# Altium integrated library Tauv-Lib.IntLib: 74 symbols
Pins are listed as number, name and electrical type; pins without a type are passive.

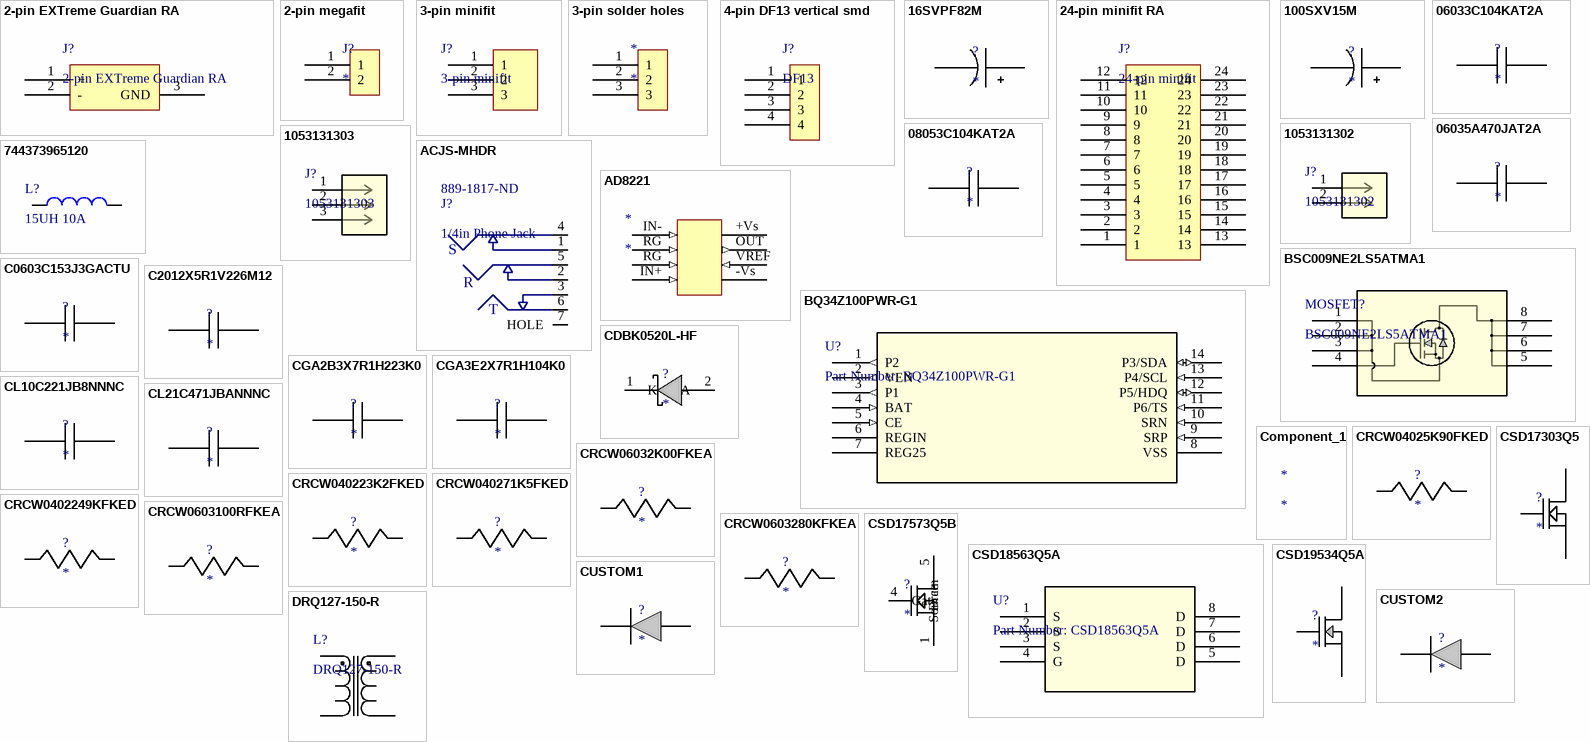
[diagram p0: symbols 2-pin EXTreme Guardian RA to DRQ127-150-R]

## 2-pin EXTreme Guardian RA
designator J?
WM8755-ND; ComponentLink1Description: digikey part; ComponentLink1URL: https://www.digikey.com/product-detail/en/molex/0468171002/WM8755-ND/3189761; ComponentLink2Description: mating connector; ComponentLink2URL: https://www.digikey.com/product-detail/en/molex/1510340012/WM14983-ND/6132389
footprint 2-pin EXTreme Guardian RA
pins: 1 +, 2 -, 3 GND

## 2-pin megafit
designator J?
footprint 2-pin Megafit RA
pins: 1, 2

## 3-pin minifit
designator J?
RA: WM4273-ND / VERT: WM18442-ND
footprint 3-PIN MINIFIT RA
footprint 3-PIN MINIFIT VERT
pins: 1, 2, 3

## 3-pin solder holes
designator *
footprint 3-PIN SOLDER HOLES
footprint 3-PIN SOLDER HOLES - small
pins: 1, 2, 3

## 4-pin DF13 vertical smd
designator J?, comment DF13
H126000CT-ND
footprint 4-pin DF13 vertical smd
pins: 1, 2, 3, 4

## 16SVPF82M
designator ?
No Description Available; Manufacturer_Part_Number: 16SVPF82M; Cap: 8.2E-5; ESR: 0.027; IRMS: 3.0; VDC: 16.0; Vendor: Panasonic; Datasheet_URL: http://industrial.panasonic.com/www%2Ddata/pdf/AAB8000/AAB8000CE1.pdf; Manufacturer_Name: Panasonic; Copyright: Copyright (C) 2018 Accelerated Designs. All rights reserved; RefDes: RefDes; Type: DEV; Value: Value
footprint CAPSMT_62_E61
pins: 1 +, 2 -

## 24-pin minifit RA
designator J?, comment 24-pin minifit
RA: WM21362-ND / VERT: WM3811-ND
footprint 24-PIN MINIFIT RA
footprint 24-PIN MINIFIT VERT
pins: 1, 2, 3, 4, 5, 6, 7, 8, 9, 10, 11, 12, 13, 14, 15, 16, 17, 18, 19, 20, 21, 22, 23, 24

## 100SXV15M
designator ?
No Description Available; Manufacturer_Part_Number: 100SXV15M; Cap: 1.5E-5; ESR: 0.04; IRMS: 2.35; VDC: 100.0; Vendor: Panasonic; Datasheet_URL: %20; Manufacturer_Name: Panasonic; Copyright: Copyright (C) 2018 Accelerated Designs. All rights reserved; RefDes: RefDes; Type: DEV; Value: Value
footprint CAPSMT_62_E12
pins: 1 +, 2 -

## 06033C104KAT2A
designator ?
No Description Available; Manufacturer_Part_Number: 06033C104KAT2A; Cap: 1.0E-7; ESR: 0.05; IRMS: 0.0; VDC: 25.0; Vendor: AVX; Manufacturer_Name: AVX; Copyright: Copyright (C) 2018 Accelerated Designs. All rights reserved; RefDes: RefDes; Type: DEV; Value: Value
footprint 0603
pins: 1, 2

## 06035A470JAT2A
designator ?
No Description Available; Manufacturer_Part_Number: 06035A470JAT2A; Cap: 4.7E-11; ESR: 0.174; IRMS: 0.0; VDC: 50.0; Vendor: AVX; Manufacturer_Name: AVX; Copyright: Copyright (C) 2018 Accelerated Designs. All rights reserved; RefDes: RefDes; Type: DEV; Value: Value
footprint 0603
pins: 1, 2

## 08053C104KAT2A
designator ?
No Description Available; Manufacturer_Part_Number: 08053C104KAT2A; Cap: 1.0E-7; ESR: 0.28; IRMS: 0.0; VDC: 25.0; Vendor: AVX; Manufacturer_Name: AVX; Copyright: Copyright (C) 2018 Accelerated Designs. All rights reserved; RefDes: RefDes; Type: DEV; Value: Value
footprint 0805
pins: 1, 2

## 1053131302
designator J?
No Description Available; Mfr_Name: Molex Connector Corporation; Copyright: Copyright (C) 2022 Ultra Librarian. All rights reserved.; Manufacturer_Part_Number: 1053131302; RefDes: RefDes; Type: DEV
footprint CON_1053131302
pins: 1, 2

## 1053131303
designator J?
No Description Available; Mfr_Name: Molex Connector Corporation; Copyright: Copyright (C) 2022 Ultra Librarian. All rights reserved.; Manufacturer_Part_Number: 1053131303; RefDes: RefDes; Type: DEV
footprint CON_1053131303
pins: 1, 2, 3

## 744373965120
designator L?, comment 15UH 10A
FIXED IND 15UH 10A 11.3 MOHM; ComponentLink1URL: http://www.bourns.com/docs/Product-Datasheets/SRP5030TA.pdf; ComponentLink1Description: http://www.bourns.com/docs/Product-Datasheets/SRP5030TA.pdf; Supplier 1: Digi-Key; Supplier Part Number 1: 732-10717-1-ND
footprint 744373965120
pins: 1, 2

## ACJS-MHDR
designator J?, comment 1/4in Phone Jack  Supplier Part Number 1: 889-1817-ND
Supplier 1: Digi-Key
footprint ACJS-MHDR
pins: 1, 2, 3, 4, 5, 6, 7 HOLE
text: S; R; T

## AD8221
designator *
pins: +Vs (power), -Vs (power), IN+ (in), IN- (in), OUT (out), RG (in), RG (in), VREF (in)

## BQ34Z100PWR-G1
designator U?, comment Part Number: BQ34Z100PWR-G1
No Description Available; Vendor: Texas Instruments; Built_By: EMA_UL_Team; Manufacturer_Part_Number: BQ34Z100PWR-G1; Copyright: Copyright (C) 2018 Accelerated Designs. All rights reserved; RefDes: RefDes; Type: DEV; Value: Value
footprint PW14
pins: 1 P2 (out), 2 VEN (out), 3 P1 (out), 4 BAT (in), 5 CE (in), 6 REGIN (power), 7 REG25 (power), 8 VSS (power), 9 SRP (in), 10 SRN (in), 11 P6/TS (in), 12 P5/HDQ (io), 13 P4/SCL (in), 14 P3/SDA (io)

## BSC009NE2LS5ATMA1
designator MOSFET?
No Description Available; Mfr_Name: Infineon; Copyright: Copyright (C) 2022 Ultra Librarian. All rights reserved.; Manufacturer_Part_Number: BSC009NE2LS5ATMA1; Digi-Key_Part_Number_1: BSC009NE2LS5ATMA1TR-ND; Digi-Key_Part_Number_2: BSC009NE2LS5ATMA1CT-ND; Digi-Key_Part_Number_3: BSC009NE2LS5ATMA1DKR-ND; RefDes: RefDes; Type: DEV
footprint PG-TDSON-8-1_INF
footprint UHEMA_36_ADI
pins: 1, 2, 3, 4, 5, 6, 7, 8

## C0603C153J3GACTU
designator ?
No Description Available; Manufacturer_Part_Number: C0603C153J3GACTU; Cap: 1.5E-8; ESR: 0.0; VDC: 25.0; Vendor: Kemet; Datasheet_URL: http://www.kemet.com/docfinder?Partnumber%3DC0603C153J3GACTU; IRMS: 0.0; Manufacturer_Name: Kemet; Copyright: Copyright (C) 2018 Accelerated Designs. All rights reserved; RefDes: RefDes; Type: DEV; Value: Value
footprint 0603
pins: 1, 2

## C2012X5R1V226M12
designator ?
No Description Available; Manufacturer_Part_Number: C2012X5R1V226M125AC; Cap: 2.2E-5; ESR: 0.00205; IRMS: 4.55587; VDC: 35.0; Vendor: TDK; Datasheet_URL: https://product.tdk.com/en/search/capacitor/ceramic/mlcc/info?part%5Fno%3DC2012X5R1V226M125AC; Manufacturer_Name: TDK; Copyright: Copyright (C) 2018 Accelerated Designs. All rights reserved; RefDes: RefDes; Type: DEV; Value: Value
footprint 0805
pins: 1, 2

## CDBK0520L-HF
designator ?
No Description Available; Manufacturer_Part_Number: CDBK0520L-HF; Io: 0.5; VRRM: 20.0; VFatIo: 0.385; Vendor: Comchip Technology; Datasheet_URL: http://www.comchiptech.com/cms/UserFiles/CDBK0520L%2DHF%2DRevB797958.pdf; Manufacturer_Name: Comchip Technology; Copyright: Copyright (C) 2018 Accelerated Designs. All rights reserved; RefDes: RefDes; Type: DEV; Value: Value
footprint SOD-123F
pins: 1 K, 2 A

## CGA2B3X7R1H223K0
designator ?
No Description Available; Manufacturer_Part_Number: CGA2B3X7R1H223K050BB; Cap: 2.2E-8; ESR: 0.141987; IRMS: 0.451393; VDC: 50.0; Vendor: TDK; Datasheet_URL: https://product.tdk.com/en/search/capacitor/ceramic/mlcc/info?part%5Fno%3DCGA2B3X7R1H223K050BB; Manufacturer_Name: TDK; Copyright: Copyright (C) 2018 Accelerated Designs. All rights reserved; RefDes: RefDes; Type: DEV; Value: Value
footprint 0402
pins: 1, 2

## CGA3E2X7R1H104K0
designator ?
No Description Available; Manufacturer_Part_Number: CGA3E2X7R1H104K080AA; Cap: 1.0E-7; ESR: 0.0296; IRMS: 0.97199; VDC: 50.0; Vendor: TDK; Datasheet_URL: https://product.tdk.com/en/search/capacitor/ceramic/mlcc/info?part%5Fno%3DCGA3E2X7R1H104K080AA; Manufacturer_Name: TDK; Copyright: Copyright (C) 2018 Accelerated Designs. All rights reserved; RefDes: RefDes; Type: DEV; Value: Value
footprint 0603
pins: 1, 2

## CL10C221JB8NNNC
designator ?
No Description Available; Manufacturer_Part_Number: CL10C221JB8NNNC; Cap: 2.2E-10; ESR: 0.0; VDC: 50.0; Vendor: Samsung Electro-Mechanics; Datasheet_URL: http://www.samsungsem.com/servlet/FileDownload?type%3Dspec%26file%3DCL10C221JB8NNNC.pdf; IRMS: 0.0; Manufacturer_Name: Samsung Electro-Mechanics; Copyright: Copyright (C) 2018 Accelerated Designs. All rights reserved; RefDes: RefDes; Type: DEV; Value: Value
footprint 0603
pins: 1, 2

## CL21C471JBANNNC
designator ?
No Description Available; Manufacturer_Part_Number: CL21C471JBANNNC; Cap: 4.7E-10; ESR: 0.0; VDC: 50.0; Vendor: Samsung Electro-Mechanics; Datasheet_URL: http://www.samsungsem.com/servlet/FileDownload?type%3Dspec%26file%3DCL21C471JBANNNC.pdf; IRMS: 0.0; Manufacturer_Name: Samsung Electro-Mechanics; Copyright: Copyright (C) 2018 Accelerated Designs. All rights reserved; RefDes: RefDes; Type: DEV; Value: Value
footprint 0805
pins: 1, 2

## Component_1
designator *

## CRCW04025K90FKED
designator ?
No Description Available; Manufacturer_Part_Number: CRCW04025K90FKED; Resistance: 5900.0; Power: 0.063; Tolerance: 1.0; Vendor: Vishay-Dale; Manufacturer_Name: Vishay-Dale; Copyright: Copyright (C) 2018 Accelerated Designs. All rights reserved; RefDes: RefDes; Type: DEV; Value: Value
footprint 0402
pins: 1, 2

## CRCW06032K00FKEA
designator ?
No Description Available; Manufacturer_Part_Number: CRCW06032K00FKEA; Resistance: 2000.0; Power: 0.1; Tolerance: 1.0; Vendor: Vishay-Dale; Manufacturer_Name: Vishay-Dale; Copyright: Copyright (C) 2018 Accelerated Designs. All rights reserved; RefDes: RefDes; Type: DEV; Value: Value
footprint 0603
pins: 1, 2

## CRCW040223K2FKED
designator ?
No Description Available; Manufacturer_Part_Number: CRCW040223K2FKED; Resistance: 23200.0; Power: 0.063; Tolerance: 1.0; Vendor: Vishay-Dale; Manufacturer_Name: Vishay-Dale; Copyright: Copyright (C) 2018 Accelerated Designs. All rights reserved; RefDes: RefDes; Type: DEV; Value: Value
footprint 0402
pins: 1, 2

## CRCW040271K5FKED
designator ?
No Description Available; Manufacturer_Part_Number: CRCW040271K5FKED; Resistance: 71500.0; Power: 0.063; Tolerance: 1.0; Vendor: Vishay-Dale; Manufacturer_Name: Vishay-Dale; Copyright: Copyright (C) 2018 Accelerated Designs. All rights reserved; RefDes: RefDes; Type: DEV; Value: Value
footprint 0402
pins: 1, 2

## CRCW0402249KFKED
designator ?
No Description Available; Manufacturer_Part_Number: CRCW0402249KFKED; Resistance: 249000.0; Power: 0.063; Tolerance: 1.0; Vendor: Vishay-Dale; Manufacturer_Name: Vishay-Dale; Copyright: Copyright (C) 2018 Accelerated Designs. All rights reserved; RefDes: RefDes; Type: DEV; Value: Value
footprint 0402
pins: 1, 2

## CRCW0603100RFKEA
designator ?
No Description Available; Manufacturer_Part_Number: CRCW0603100RFKEA; Resistance: 100.0; Power: 0.1; Tolerance: 1.0; Vendor: Vishay-Dale; Manufacturer_Name: Vishay-Dale; Copyright: Copyright (C) 2018 Accelerated Designs. All rights reserved; RefDes: RefDes; Type: DEV; Value: Value
footprint 0603
pins: 1, 2

## CRCW0603280KFKEA
designator ?
No Description Available; Manufacturer_Part_Number: CRCW0603280KFKEA; Resistance: 280000.0; Power: 0.1; Tolerance: 1.0; Vendor: Vishay-Dale; Manufacturer_Name: Vishay-Dale; Copyright: Copyright (C) 2018 Accelerated Designs. All rights reserved; RefDes: RefDes; Type: DEV; Value: Value
footprint 0603
pins: 1, 2

## CSD17303Q5
designator ?
No Description Available; Manufacturer_Part_Number: CSD17303Q5; VdsMax: 30.0; IdsMax: 100.0; Rdson45: 0.002; QgTyp: 18.0; Vendor: Texas Instruments; Datasheet_URL: http://www.ti.com/lit/ds/symlink/csd17303q5.pdf; Quantity: 1; Manufacturer_Name: Texas Instruments; Copyright: Copyright (C) 2018 Accelerated Designs. All rights reserved; RefDes: RefDes; Type: DEV; Value: Value
footprint TRANS_NexFET_Q5
pins: 1 Source, 2 Source, 3 Source, 4 Gate, 5 Drain, 6 Drain, 7 Drain, 8 Drain, 9 Drain

## CSD17573Q5B
designator ?
No Description Available; Manufacturer_Part_Number: CSD17573Q5B; VdsMax: 30.0; IdsMax: 100.0; Rdson45: 0.0014; QgTyp: 49.0; Vendor: Texas Instruments; Datasheet_URL: http://www.ti.com/lit/ds/symlink/csd17573q5b.pdf; Quantity: 1; Manufacturer_Name: Texas Instruments; Copyright: Copyright (C) 2018 Accelerated Designs. All rights reserved; RefDes: RefDes; Type: DEV; Value: Value
footprint DNK0008A
pins: 1 Source, 2 Source, 3 Source, 4 Gate, 5 Drain, 6 Drain, 7 Drain, 8 Drain, 9 Drain

## CSD18563Q5A
designator U?, comment Part Number: CSD18563Q5A
No Description Available; Vendor: Texas Instruments; Built_By: EMA_UL_Team; Manufacturer_Part_Number: CSD18563Q5A; Copyright: Copyright (C) 2018 Accelerated Designs. All rights reserved; RefDes: RefDes; Type: DEV; Value: Value
footprint DQJ8
pins: 1 S, 2 S, 3 S, 4 G, 5 D, 6 D, 7 D, 8 D

## CSD19534Q5A
designator ?
No Description Available; Manufacturer_Part_Number: CSD19534Q5A; VdsMax: 100.0V; IdsMax: 10.0A; Rdsonat10V: 0.012Ohm; QgTyp: 17nC; Vendor: Texas Instruments; Datasheet_URL: http://www.ti.com/lit/ds/symlink/CSD19534Q5A.pdf; Quantity: 1; Manufacturer_Name: Texas Instruments; Copyright: Copyright (C) 2018 Accelerated Designs. All rights reserved; RefDes: RefDes; Type: DEV; Value: Value
footprint TRANS_NexFET_Q5A
pins: 1 Source, 2 Source, 3 Source, 4 Gate, 5 Drain, 6 Drain, 7 Drain, 8 Drain, 9 Drain

## CUSTOM1
designator ?
No Description Available; Manufacturer_Part_Number: GENERIC_DIODE; Part_Number: CUSTOM; Part_ID: 18; Io: 0; Vendor: Unknown; Io: 0.2; Component_Type_Index: 40; RJA: 0.0; Thermal_Status: N; Schematic_mapping_symbol: WB_DIODE; Component_Type: Diode; VRRM: 60.0; VFatIo: 0.5; TYPE_2: TYPE; VRRM: 0; VFatIo: 0; Footprint: 0.00; Thermal_ID: CUSTOM; Mount: ?; RJC: 0.0; Trr: 0.0; Tj: 0.0; Dimension_X: 0.0; Dimension_Y: 0.0; Height: 0.0; Price: 0.0; Quantity: 1; Quantity_In_stock: 0; Type: DEV; Manufacture: CUSTOM; Package: ?; Manufacturer_Name: CUSTOM; Copyright: Copyright (C) 2018 Accelerated Designs. All rights reserved; RefDes: RefDes; Value: Value
footprint GEN_Diode
pins: 1 K, 2 A

## CUSTOM2
designator ?
No Description Available; Manufacturer_Part_Number: GENERIC_DIODE; Part_Number: CUSTOM; Part_ID: 18; Io: 0; Vendor: Unknown; Io: 0.2; Component_Type_Index: 40; RJA: 0.0; Thermal_Status: N; Schematic_mapping_symbol: WB_DIODE; Component_Type: Diode; VRRM: 60.0; VFatIo: 0.5; TYPE_2: TYPE; VRRM: 0; VFatIo: 0; Footprint: 0.00; Thermal_ID: CUSTOM; Mount: ?; RJC: 0.0; Trr: 0.0; Tj: 0.0; Dimension_X: 0.0; Dimension_Y: 0.0; Height: 0.0; Price: 0.0; Quantity: 1; Quantity_In_stock: 0; Type: DEV; Manufacture: CUSTOM; Package: ?; Manufacturer_Name: CUSTOM; Copyright: Copyright (C) 2018 Accelerated Designs. All rights reserved; RefDes: RefDes; Value: Value
footprint GEN_Diode
pins: 1 K, 2 A

## DRQ127-150-R
designator L?
No Description Available; Mfr_Name: Eaton; Type: DEV; Copyright: Copyright (C) 2022 Ultra Librarian. All rights reserved.; Manufacturer_Part_Number: DRQ127-150-R; Digi-Key_Part_Number_1: 513-1144-1-ND; Digi-Key_Part_Number_2: 513-1144-2-ND; Digi-Key_Part_Number_3: 513-1144-2-NDL; Digi-Key_Part_Number_4: 513-1144-6-ND; RefDes: RefDes
footprint DRQ127
pins: 1, 2, 3, 4

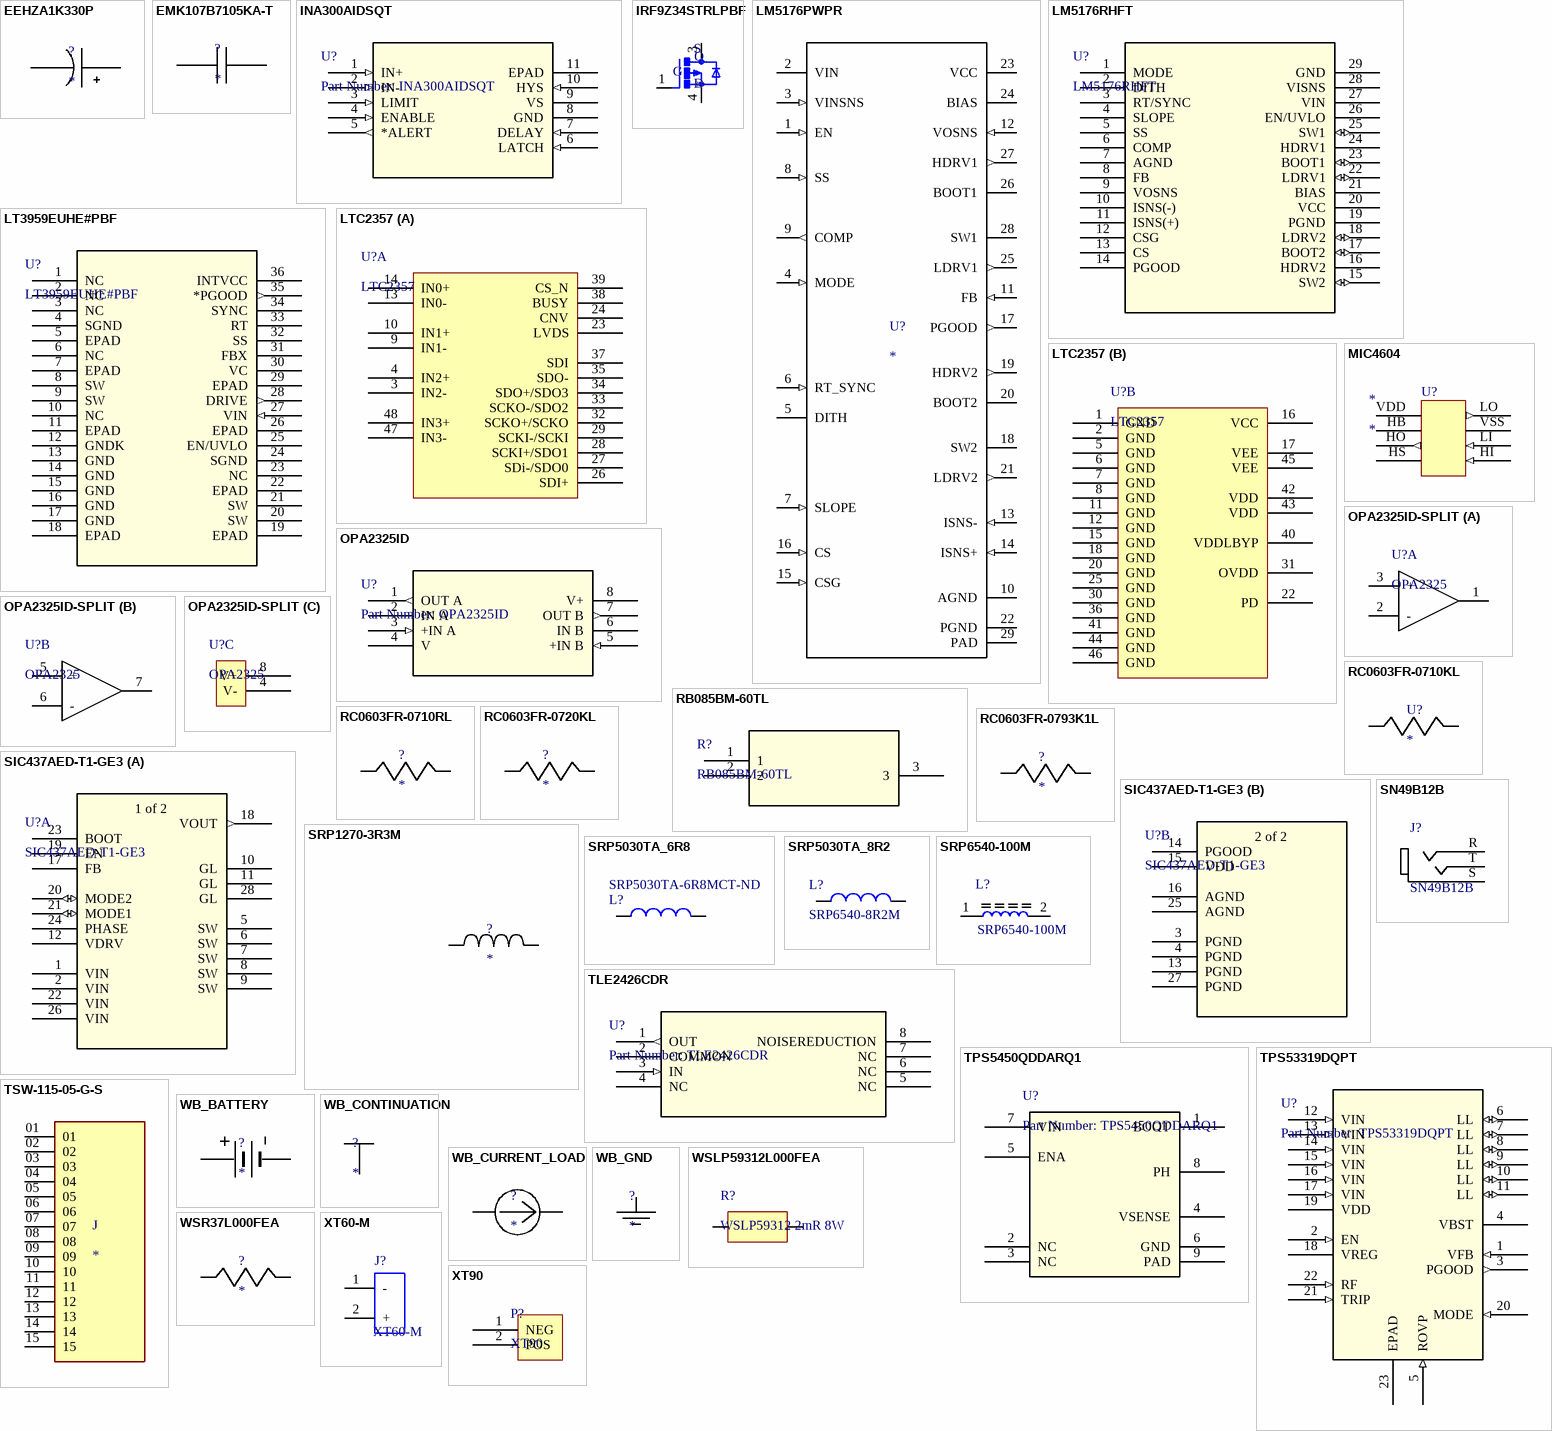
[diagram p1: symbols EEHZA1K330P to XT90]

## EEHZA1K330P
designator ?
No Description Available; Manufacturer_Part_Number: EEHZA1K330P; Cap: 3.3E-5; ESR: 0.036; IRMS: 1.7; VDC: 80.0; Vendor: Panasonic; Datasheet_URL: http://industrial.panasonic.com/www%2Ddata/pdf/ABA0000/ABA0000CE136.pdf; Manufacturer_Name: Panasonic; Copyright: Copyright (C) 2018 Accelerated Designs. All rights reserved; RefDes: RefDes; Type: DEV; Value: Value
footprint SM_RADIAL_10BMM
pins: 1 +, 2 -

## EMK107B7105KA-T
designator ?
No Description Available; Manufacturer_Part_Number: EMK107B7105KA-T; Cap: 1.0E-6; ESR: 0.001; IRMS: 0.0; VDC: 16.0; Vendor: Taiyo Yuden; Datasheet_URL: http://www.yuden.co.jp/ut/product/pdf/djmk%5Fe.pdf; Manufacturer_Name: Taiyo Yuden; Copyright: Copyright (C) 2018 Accelerated Designs. All rights reserved; RefDes: RefDes; Type: DEV; Value: Value
footprint 0603
pins: 1, 2

## INA300AIDSQT
designator U?, comment Part Number: INA300AIDSQT
No Description Available; Vendor: Texas Instruments; Built_By: EMA_UL_Team; Manufacturer_Part_Number: INA300AIDSQT; Copyright: Copyright (C) 2018 Accelerated Designs. All rights reserved; RefDes: RefDes; Type: DEV; Value: Value
footprint DSQ10_P9X1P5
pins: 1 IN+ (in), 2 IN- (in), 3 LIMIT (in), 4 ENABLE (in), 5 *ALERT (out), 6 LATCH (in), 7 DELAY (in), 8 GND (power), 9 VS (power), 10 HYS (in), 11 EPAD

## IRF9Z34STRLPBF
designator Q
P-Channel 60V 18A _Tc_ 3.7W _Ta_, 88W _Tc_ Surface Mount D2PAK; MF: Vishay; MP: IRF9Z34STRLPBF; Package: D2PAK Vishay; Value: *; Availability: Unavailable; Price: None; SnapEDA_Link: https://www.snapeda.com/parts/IRF9Z34STRLPBF/Vishay%20Siliconix/view-part/813693/?ref=snap
footprint TO254P1521X483-4N
pins: 1 G, 3 S, 4 D

## LM5176PWPR
designator U?
No Description Available; PartNumber: LM5176PWPR; Manufacturer: Texas Instruments; RefDes: RefDes; Type: DEV; Value: Value; Manufacturer_Part_Number: LM5176PWPR; Manufacturer_Name: Texas Instruments; Copyright: Copyright (C) 2018 Accelerated Designs. All rights reserved
footprint PWP0028C_N
pins: 1 EN (in), 2 VIN (power), 3 VINSNS (in), 4 MODE (in), 5 DITH, 6 RT_SYNC (in), 7 SLOPE (in), 8 SS (in), 9 COMP (out), 10 AGND (power), 11 FB (in), 12 VOSNS (in), 13 ISNS- (in), 14 ISNS+ (in), 15 CSG (in), 16 CS (in), 17 PGOOD (out), 18 SW2 (power), 19 HDRV2 (out), 20 BOOT2 (power), 21 LDRV2 (out), 22 PGND (power), 23 VCC (power), 24 BIAS (power), 25 LDRV1 (out), 26 BOOT1 (power), 27 HDRV1 (out), 28 SW1 (power), 29 PAD (power)

## LM5176RHFT
designator U?
No Description Available; Mfr_Name: Texas Instruments; Copyright: Copyright (C) 2022 Ultra Librarian. All rights reserved.; Manufacturer_Part_Number: LM5176RHFT; Digi-Key_Part_Number_1: 296-LM5176RHFTTR-ND; Digi-Key_Part_Number_2: 296-LM5176RHFTCT-ND; Digi-Key_Part_Number_3: 296-LM5176RHFTDKR-ND; RefDes: RefDes; Type: DEV
footprint VQFN_76RHFT_TEX
pins: 1 MODE, 2 DITH, 3 RT/SYNC, 4 SLOPE, 5 SS, 6 COMP, 7 AGND, 8 FB, 9 VOSNS, 10 ISNS(-), 11 ISNS(+), 12 CSG, 13 CS, 14 PGOOD (power), 15 SW2 (io), 16 HDRV2, 17 BOOT2 (io), 18 LDRV2 (io), 19 PGND, 20 VCC (power), 21 BIAS, 22 LDRV1 (io), 23 BOOT1 (io), 24 HDRV1, 25 SW1 (io), 26 EN/UVLO, 27 VIN, 28 VISNS, 29 GND

## LT3959EUHE#PBF
designator U?
No Description Available; Mfr_Name: Analog Devices Inc; Copyright: Copyright (C) 2022 Ultra Librarian. All rights reserved.; Manufacturer_Part_Number: LT3959EUHE#PBF; Digi-Key_Part_Number_1: 2156-LT3959EUHE#PBF-ND; Digi-Key_Part_Number_2: LT3959EUHE#PBF-CRL-ND; Digi-Key_Part_Number_3: LT3959EUHE#PBF-ND; RefDes: RefDes; Type: DEV
footprint UHEMA_36_ADI
pins: 1 NC, 2 NC, 3 NC, 4 SGND, 5 EPAD, 6 NC, 7 EPAD, 8 SW, 9 SW, 10 NC, 11 EPAD, 12 GNDK, 13 GND, 14 GND, 15 GND, 16 GND, 17 GND, 18 EPAD, 19 EPAD, 20 SW, 21 SW, 22 EPAD, 23 NC, 24 SGND, 25 EN/UVLO, 26 EPAD, 27 VIN (in), 28 DRIVE (out), 29 EPAD, 30 VC (power), 31 FBX, 32 SS, 33 RT, 34 SYNC, 35 *PGOOD (out), 36 INTVCC (power)

## LTC2357
designator U?
Supplier 1: Digi-Key
footprint LTC2357 (TSQFP, 48-Leads, Body 7.00x7.00mm, Pitch 0.50mm, IPC Medium Density)
part A pins: 3 IN2-, 4 IN2+, 9 IN1-, 10 IN1+, 13 IN0-, 14 IN0+, 23 LVDS, 24 CNV, 26 SDI+, 27 SDi-/SDO0, 28 SCKI+/SDO1, 29 SCKI-/SCKI, 32 SCKO+/SCKO, 33 SCKO-/SDO2, 34 SDO+/SDO3, 35 SDO-, 37 SDI, 38 BUSY, 39 CS_N, 47 IN3-, 48 IN3+
part B pins: 1 GND, 2 GND, 5 GND, 6 GND, 7 GND, 8 GND, 11 GND, 12 GND, 15 GND, 16 VCC, 17 VEE, 18 GND, 20 GND, 22 PD, 25 GND, 30 GND, 31 OVDD, 36 GND, 40 VDDLBYP, 41 GND, 42 VDD, 43 VDD, 44 GND, 45 VEE, 46 GND

## MIC4604
designator *
pins: HB (power), HI (in), HO (out), HS (power), LI (in), LO (out), VDD (power), VSS (power)
text: U?

## OPA2325ID
designator U?, comment Part Number: OPA2325ID
No Description Available; Vendor: Texas Instruments; Built_By: EMA_Molly; Manufacturer_Part_Number: OPA2325ID; Copyright: Copyright (C) 2018 Accelerated Designs. All rights reserved; RefDes: RefDes; Type: DEV; Value: Value
footprint D8
pins: 1 OUT A (out), 2 IN A, 3 +IN A (in), 4 V, 5 +IN B (in), 6 IN B, 7 OUT B (out), 8 V+ (power)

## OPA2325ID-SPLIT
designator U?, comment OPA2325
part A pins: 1, 2 -, 3 +
part B pins: 5 +, 6 -, 7
part C pins: 4 V-, 8 V+

## RB085BM-60TL
designator R?
No Description Available; Mfr_Name: ROHM Semiconductor; Copyright: Copyright (C) 2022 Ultra Librarian. All rights reserved.; Manufacturer_Part_Number: RB085BM-60TL; Digi-Key_Part_Number_1: RB085BM-60TLCT-ND; Digi-Key_Part_Number_2: RB085BM-60TLDKR-ND; Digi-Key_Part_Number_3: RB085BM-60TLTR-ND; RefDes: RefDes; Type: DEV
footprint DIO_RR601BM4_ROM
pins: 1, 2, 3

## RC0603FR-0710KL
designator U?
No Description Available; PartNumber: RC0603FR-0710KL; Manufacturer: Yageo America; Manufacturer_Name: Yageo; Resistance: 23200.0; Power: 0.063; Tolerance: 1.0; Manufacturer_Part_Number: RC0603FR-0710KL; Copyright: Copyright (C) 2018 Accelerated Designs. All rights reserved; RefDes: RefDes; Type: DEV; Value: Value
footprint 0603
pins: 1, 2

## RC0603FR-0710RL
designator ?
No Description Available; Manufacturer_Part_Number: RC0603FR-0710RL; Manufacturer_Name: Yageo; Resistance: 10.0; Power: 0.1; Tolerance: 1.0; Vendor: Yageo America; Copyright: Copyright (C) 2018 Accelerated Designs. All rights reserved; RefDes: RefDes; Type: DEV; Value: Value
footprint 0603
pins: 1, 2

## RC0603FR-0720KL
designator ?
No Description Available; Manufacturer_Part_Number: RC0603FR-0720KL; Manufacturer_Name: Yageo; Resistance: 20000.0; Power: 0.1; Tolerance: 1.0; Vendor: Yageo America; Copyright: Copyright (C) 2018 Accelerated Designs. All rights reserved; RefDes: RefDes; Type: DEV; Value: Value
footprint 0603
pins: 1, 2

## RC0603FR-0793K1L
designator ?
No Description Available; Manufacturer_Part_Number: RC0603FR-0793K1L; Manufacturer_Name: Yageo; Resistance: 93100.0; Power: 0.1; Tolerance: 1.0; Vendor: Yageo America; Copyright: Copyright (C) 2018 Accelerated Designs. All rights reserved; RefDes: RefDes; Type: DEV; Value: Value
footprint 0603
pins: 1, 2

## SIC437AED-T1-GE3
designator U?
No Description Available; Mfr_Name: Vishay; Copyright: Copyright (C) 2022 Ultra Librarian. All rights reserved.; Manufacturer_Part_Number: SIC437AED-T1-GE3; Digi-Key_Part_Number_1: SIC437AED-T1-GE3TR-ND; Digi-Key_Part_Number_2: SIC437AED-T1-GE3CT-ND; Digi-Key_Part_Number_3: SIC437AED-T1-GE3DKR-ND; RefDes: RefDes; Type: DEV
footprint QFN_ED-T1-GE3_VIS
footprint QFN_ED-T1-GE3_VIS
part A pins: 1 VIN, 2 VIN, 5 SW, 6 SW, 7 SW, 8 SW, 9 SW, 10 GL, 11 GL, 12 VDRV, 17 FB, 18 VOUT (out), 19 EN, 20 MODE2 (io), 21 MODE1 (io), 22 VIN, 23 BOOT, 24 PHASE, 26 VIN, 28 GL
part B pins: 3 PGND, 4 PGND, 13 PGND, 14 PGOOD (power), 15 VDD (power), 16 AGND, 25 AGND, 27 PGND
part A text: 1 of 2
part B text: 2 of 2

## SN49B12B
designator J?
Connector 1/4 Phone Jack F 3 POS 7.62mm Solder RA Thru-Hole 6 Terminal 1 Port; MF: Switchcraft Inc.; SnapEDA_Link: https://www.snapeda.com/parts/SN49B12B/Switchcraft%20Inc./view-part/318220/?ref=snap; Digi-Key_Part_Number: SC1522-ND; Digi-Key_Purchase_URL: https://www.digikey.com/product-detail/en/switchcraft-inc/SN49B12B/SC1522-ND/412780?utm_source=snapeda&utm_medium=aggregator&utm_campaign=symbol; MP: SN49B12B; Package: None; Value: *
footprint *SWITCHCRAFT_SN49B12B_SN49B12B(Primary)
pins: R, S, T

## SRP1270-3R3M
designator ?
No Description Available; Manufacturer_Part_Number: SRP1270-3R3M; L: 3.3E-6; DCR: 0.0066; IDC: 18.0; Vendor: Bourns; Manufacturer_Name: Bourns; Copyright: Copyright (C) 2018 Accelerated Designs. All rights reserved; RefDes: RefDes; Type: DEV; Value: Value
footprint SRP1270
pins: 1, 2

## SRP5030TA_6R8
designator L?  Supplier Part Number 1: SRP5030TA-6R8MCT-ND
Manufacturer: Bourns Inc.; Manufacturer Part Number: SRP5030TA-6R8M; Type: Wirewound; Material - Core: Carbonyl Powder; Tolerance: ±20%; Shielding: Shielded; DC Resistance (DCR): 76.2 mOhm Max; Q @ Freq: 15 @ 100kHz; Supplier 1: Digi-Key; RoHS: RoHS Compliant; Category: Inductors, Coils, Chokes; Stock 1: 5626; Pricing 1: 1=1.51, 10=1.397, 100=0.9781, 500=0.79178, 1000=0.72191 (USD); Packaging: Cut Tape (CT); Part Status: Active; Ratings: AEC-Q200; Operating Temperature: -40°C ~ 150°C; Mounting Type: Surface Mount; Package / Case: Nonstandard; Supplier Device Package: -; Size / Dimension: 0.224" L x 0.205" W (5.70mm x 5.20mm); Height - Seated (Max): 0.118" (3.00mm); ComponentLink1URL: http://www.bourns.com/docs/Product-Datasheets/SRP5030TA.pdf; ComponentLink1Description: http://www.bourns.com/docs/Product-Datasheets/SRP5030TA.pdf
footprint BOURNS SRP5030T (Precision Wire Wound Inductor, 2-Leads, Body 5.70x5.20mm, IPC Medium Density)
pins: 1, 2

## SRP5030TA_8R2
designator L?, comment SRP6540-8R2M
ComponentLink1URL: http://www.bourns.com/docs/Product-Datasheets/SRP5030TA.pdf; ComponentLink1Description: http://www.bourns.com/docs/Product-Datasheets/SRP5030TA.pdf; Supplier 1: Digi-Key; Supplier Part Number 1: SRP6540-8R2MCT-ND
footprint BOURNS SRP5030T (Precision Wire Wound Inductor, 2-Leads, Body 5.70x5.20mm, IPC Medium Density)
pins: 1, 2

## SRP6540-100M
designator L?
Inductor Power Shielded/Molded Wirewound 10uH 20% 100KHz Powdered Iron 4A 78.5mOhm DCR T/R; MF: Bourns; Digi-Key_Part_Number: SRP6540-100MCT-ND; SnapEDA_Link: https://www.snapeda.com/parts/SRP6540-100M/Bourns/view-part/?ref=snap; Package: Nonstandard Bourns; MP: SRP6540-100M; Digi-Key_Purchase_URL: https://www.digikey.com/product-detail/en/bourns-inc/SRP6540-100M/SRP6540-100MCT-ND/3986041?utm_source=snapeda&utm_medium=aggregator&utm_campaign=symbol; Value: *
footprint IND_SRP6540-100M
pins: 1, 2

## TLE2426CDR
designator U?, comment Part Number: TLE2426CDR
No Description Available; Vendor: Texas Instruments; Built_By: EMA_UL_Team; Manufacturer_Part_Number: TLE2426CDR; Copyright: Copyright (C) 2018 Accelerated Designs. All rights reserved; RefDes: RefDes; Type: DEV; Value: Value
footprint D8
pins: 1 OUT (out), 2 COMMON, 3 IN (in), 4 NC, 5 NC, 6 NC, 7 NC, 8 NOISEREDUCTION

## TPS5450QDDARQ1
designator U?, comment Part Number: TPS5450QDDARQ1
No Description Available; Manufacturer: Texas Instruments; Built_By: EMA_UL_Team; Manufacturer_Part_Number: TPS5450QDDARQ1; Vendor: Texas Instruments; Copyright: Copyright (C) 2018 Accelerated Designs. All rights reserved; RefDes: RefDes; Type: DEV; Value: Value
footprint DDA8_3P1X2P4
pins: 1 BOOT, 2 NC, 3 NC, 4 VSENSE, 5 ENA, 6 GND, 7 VIN, 8 PH, 9 PAD

## TPS53319DQPT
designator U?, comment Part Number: TPS53319DQPT
No Description Available; Built_By: EMA_UL_Team; Vendor: Texas Instruments; Manufacturer_Part_Number: TPS53319DQPT; Copyright: Copyright (C) 2018 Accelerated Designs. All rights reserved; RefDes: RefDes; Type: DEV; Value: Value
footprint DQP22_3P24X5P547
pins: 1 VFB (in), 2 EN (in), 3 PGOOD (out), 4 VBST (power), 5 ROVP (in), 6 LL (io), 7 LL (io), 8 LL (io), 9 LL (io), 10 LL (io), 11 LL (io), 12 VIN (in), 13 VIN (in), 14 VIN (in), 15 VIN (in), 16 VIN (in), 17 VIN (in), 18 VREG (power), 19 VDD (power), 20 MODE (in), 21 TRIP (in), 22 RF (in), 23 EPAD

## TSW-115-05-G-S
designator J
MP: TSW-115-05-G-S; MF: Samtec; Value: *; Availability: Unavailable; Price: None; Package: None
footprint SAMTEC_TSW-115-05-G-S
pins: 01, 02, 03, 04, 05, 06, 07, 08, 09, 10, 11, 12, 13, 14, 15

## WB_BATTERY
designator ?
No Description Available; Manufacturer_Part_Number: WB_BATTERY; PowerPortType: POWER_GROUND; Value: Value; Manufacturer_Name: WB_BATTERY; Copyright: Copyright (C) 2018 Accelerated Designs. All rights reserved; RefDes: RefDes; TYPE: TYPE
pins: 1 +, 2 -

## WB_CONTINUATION
designator ?
No Description Available; Manufacturer_Part_Number: WB_CONTINUATION; PowerPortType: POWER_GROUND; Value: Value; Manufacturer_Name: WB_CONTINUATION; Copyright: Copyright (C) 2018 Accelerated Designs. All rights reserved; RefDes: RefDes; TYPE: TYPE
pins: 1 Node

## WB_CURRENT_LOAD
designator ?
No Description Available; Manufacturer_Part_Number: WB_CURRENT_LOAD; PowerPortType: POWER_GROUND; Value: Value; Manufacturer_Name: WB_CURRENT_LOAD; Copyright: Copyright (C) 2018 Accelerated Designs. All rights reserved; RefDes: RefDes; TYPE: TYPE
pins: 1 +, 2 -

## WB_GND
designator ?
No Description Available; Manufacturer_Part_Number: WB_GND; PowerPortType: POWER_GROUND; Value: Value; Manufacturer_Name: WB_GND; Copyright: Copyright (C) 2018 Accelerated Designs. All rights reserved; RefDes: RefDes; TYPE: TYPE
pins: 1

## WSLP59312L000FEA
designator R?, comment WSLP59312 2mR 8W
footprint WSLP59312L000FEA (0.002R 8W Shunt)
pins: 1, 2

## WSR37L000FEA
designator ?
No Description Available; Manufacturer_Part_Number: WSR37L000FEA; Resistance: 0.0070; Power: 3.0; Tolerance: 1.0; Vendor: Vishay-Dale; Manufacturer_Name: Vishay-Dale; Copyright: Copyright (C) 2018 Accelerated Designs. All rights reserved; RefDes: RefDes; Type: DEV; Value: Value
footprint 4527
pins: 1, 2

## XT60-M
designator J?
MF: AMASS; Package: Package Analog Devices; Price: None; MP: XT60-M; Availability: Unavailable; SnapEDA_Link: https://www.snapeda.com/parts/XT60-M/AMASS/view-part/?ref=snap; Value: *
footprint *AMASS_XT60-M
pins: 1 -, 2 +

## XT90
designator P?
footprint XT90
pins: 1 NEG, 2 POS